# Altium footprint library FootprintLib.PcbLib: 194 footprints (part 7 of 13)
Each footprint in its own frame and in the unit in brackets; x right, y up, seen from the top. Pads: shape width x height; smd on the part's side, far side on the other; paste and mask are expansions set on the pad; w line width, h text height; cw(c..) or ccw(c..) is an arc to the next point about the centre after c.
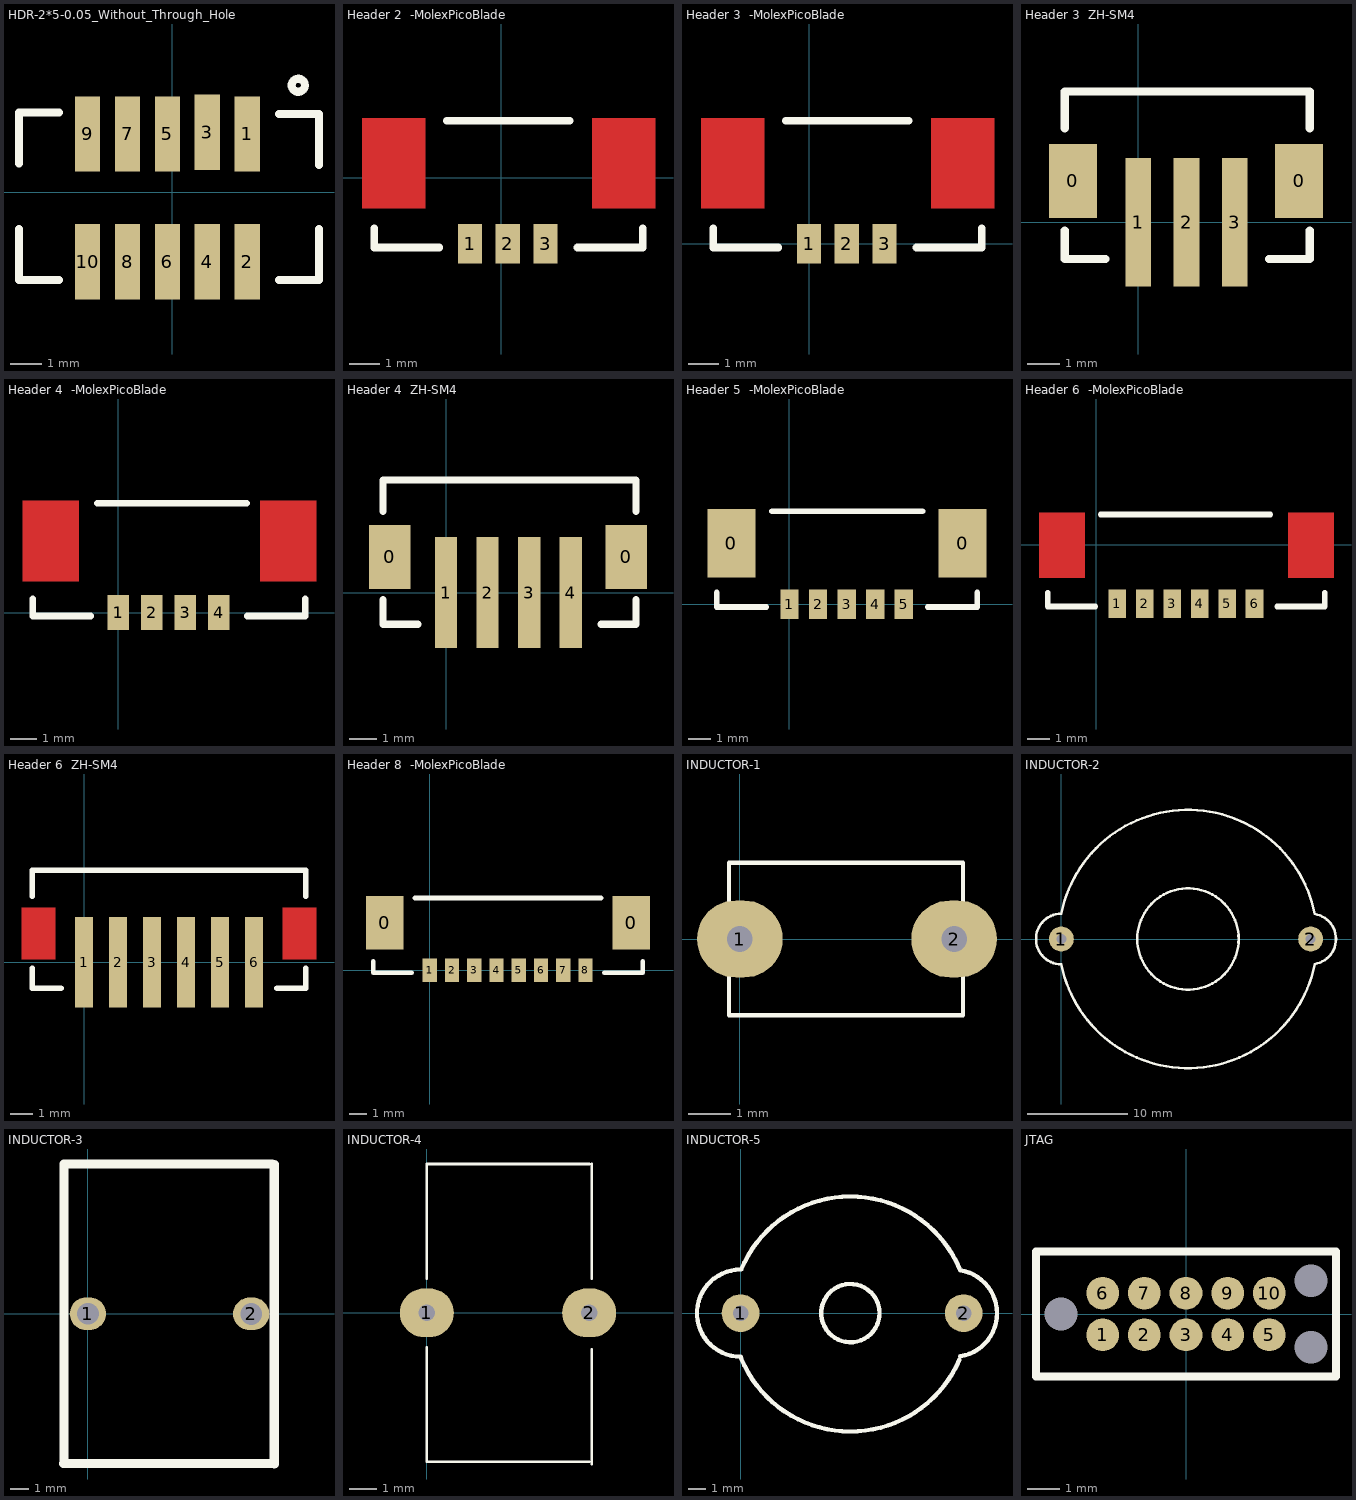
[diagram p6: the footprints below, top view; thin cyan lines are the x and y axes]

## HDR-2*5-0.05_Without_Through_Hole [mm]
pads (10):
  rect 0.8x2.4 smd: 1(2.388,1.854) 2(2.388,-2.21) 3(1.118,1.905) 4(1.118,-2.21) 5(-0.152,1.854) 6(-0.152,-2.21) 7(-1.422,1.854) 8(-1.422,-2.21) 9(-2.692,1.854) 10(-2.692,-2.21)
Top Overlay:
  circle w0.254: c4.013,3.404 r0.209
  lines w0.254: -4.877,-1.168 -4.877,-2.794 -3.607,-2.794 ; -4.877,0.914 -4.877,2.54 -3.607,2.54 ; 3.404,-2.794 4.674,-2.794 4.674,-1.168 ; 3.404,2.489 4.674,2.489 4.674,0.864

## Header 2  -MolexPicoBlade [mm]
pads (3):
  rect 0.8x1.3 smd: 1(-1.041,-2.184) 2(0.209,-2.184) 3(1.459,-2.184)
Top Layer:
  rectangle: -4.623,-1.019 -2.523,1.981
  rectangle: 2.997,-1.019 5.097,1.981
Top Overlay:
  lines w0.254: -4.216,-1.676 -4.216,-2.311 -2.057,-2.311 ; -1.803,1.88 2.261,1.88 ; 2.515,-2.311 4.674,-2.311 4.674,-1.676
Top Paste:
  rectangle: -4.623,-1.019 -2.523,1.981
  rectangle: 2.997,-1.019 5.097,1.981
Top Solder:
  rectangle: -4.75,-1.118 -2.438,2.083
  rectangle: 2.87,-1.118 5.182,2.083

## Header 3  -MolexPicoBlade [mm]
height 4.7
pads (3):
  rect 0.8x1.3 smd: 1(0,0) 2(1.25,0) 3(2.5,0)
Top Layer:
  rectangle: -3.581,1.166 -1.481,4.166
  rectangle: 4.039,1.166 6.139,4.166
Top Overlay:
  lines w0.254: -3.175,0.508 -3.175,-0.127 -1.016,-0.127 ; -0.762,4.064 3.302,4.064 ; 3.556,-0.127 5.715,-0.127 5.715,0.508
Top Paste:
  rectangle: -3.581,1.166 -1.481,4.166
  rectangle: 4.039,1.166 6.139,4.166
Top Solder:
  rectangle: -3.708,1.067 -1.397,4.267
  rectangle: 3.912,1.067 6.223,4.267

## Header 3  ZH-SM4 [mm]
height 5
pads (5):
  rect 1.5x2.3 smd: 0(-2.032,1.286) 0(5,1.286)
  rect 0.8x4 smd: 1(0,0) 2(1.5,0) 3(3,0)
Top Overlay:
  lines w0.254: -2.286,-0.254 -2.286,-1.143 -1.016,-1.143 ; -2.286,2.921 -2.286,4.064 5.334,4.064 5.334,2.921 ; 4.064,-1.143 5.298,-1.143 ; 5.334,-1.143 5.334,-0.254

## Header 4  -MolexPicoBlade [mm]
height 4.7
pads (4):
  rect 0.8x1.3 smd: 1(0,0) 2(1.25,0) 3(2.495,0) 4(3.745,0)
Top Layer:
  rectangle: -3.556,1.166 -1.456,4.166
  rectangle: 5.283,1.166 7.383,4.166
Top Overlay:
  lines w0.254: -3.175,0.508 -3.175,-0.127 -1.016,-0.127 ; -0.762,4.064 4.775,4.064 ; 4.801,-0.127 6.96,-0.127 6.96,0.508
Top Paste:
  rectangle: -3.556,1.166 -1.456,4.166
  rectangle: 5.283,1.166 7.383,4.166
Top Solder:
  rectangle: -3.683,1.067 -1.372,4.267
  rectangle: 5.156,1.067 7.468,4.267

## Header 4  ZH-SM4 [mm]
height 5
pads (6):
  rect 1.5x2.3 smd: 0(-2.032,1.286) 0(6.5,1.286)
  rect 0.8x4 smd: 1(0,0) 2(1.5,0) 3(3,0) 4(4.5,0)
Top Overlay:
  lines w0.254: -2.286,-0.254 -2.286,-1.143 -1.016,-1.143 ; -2.286,2.921 -2.286,4.064 6.858,4.064 6.858,2.921 ; 5.588,-1.143 6.822,-1.143 ; 6.858,-1.143 6.858,-0.254

## Header 5  -MolexPicoBlade [mm]
height 4.7
pads (7):
  rect 2.1x3 smd: 0(-2.54,2.667) 0(7.569,2.667)
  rect 0.8x1.3 smd: 1(0,0) 2(1.25,0) 3(2.5,0) 4(3.75,0) 5(5,0)
Top Overlay:
  lines w0.254: -3.175,0.508 -3.175,-0.127 -1.016,-0.127 ; -0.762,4.064 5.817,4.064 ; 6.045,-0.127 8.204,-0.127 8.204,0.508

## Header 6  -MolexPicoBlade [mm]
pads (6):
  rect 0.8x1.3 smd: 1(0.965,-2.692) 2(2.215,-2.692) 3(3.46,-2.692) 4(4.71,-2.692) 5(5.965,-2.692) 6(7.21,-2.692)
Top Layer:
  rectangle: 8.738,-1.527 10.838,1.473
  rectangle: -2.616,-1.527 -0.516,1.473
Top Overlay:
  lines w0.254: -2.21,-2.184 -2.21,-2.819 -0.051,-2.819 ; 0.203,1.372 7.925,1.372 ; 8.255,-2.819 10.414,-2.819 10.414,-2.184
Top Paste:
  rectangle: 8.738,-1.527 10.838,1.473
  rectangle: -2.616,-1.527 -0.516,1.473
Top Solder:
  rectangle: 8.611,-1.626 10.922,1.575
  rectangle: -2.743,-1.626 -0.432,1.575

## Header 6  ZH-SM4 [mm]
height 5
pads (6):
  rect 0.8x4 smd: 1(0,0) 2(1.5,0) 3(3,0) 4(4.5,0) 5(6,0) 6(7.5,0)
Top Layer:
  rectangle: 8.763,0.127 10.263,2.427
  rectangle: -2.769,0.127 -1.269,2.427
Top Overlay:
  lines w0.254: -2.286,-0.254 -2.286,-1.143 -1.016,-1.143 ; -2.286,2.921 -2.286,4.064 9.779,4.064 9.779,2.921 ; 8.509,-1.143 9.743,-1.143 ; 9.779,-1.143 9.779,-0.254
Top Paste:
  rectangle: 8.763,0.127 10.263,2.427
  rectangle: -2.769,0.127 -1.269,2.427
Top Solder:
  rectangle: 8.661,0.025 10.363,2.515
  rectangle: -2.87,0.025 -1.168,2.515

## Header 8  -MolexPicoBlade [mm]
height 4.7
pads (10):
  rect 2.1x3 smd: 0(-2.54,2.667) 0(11.328,2.667)
  rect 0.8x1.3 smd: 1(0,0) 2(1.25,0) 3(2.5,0) 4(3.75,0) 5(5,0) 7(7.5,0) 8(8.75,0)
  rect 0.8x1.3 smd paste+0: 6(6.25,0)
Top Overlay:
  lines w0.254: -3.175,0.508 -3.175,-0.127 -1.016,-0.127 ; -0.838,4.064 9.627,4.064 ; 9.804,-0.127 11.963,-0.127 11.963,0.508

## INDUCTOR-1 [mm]
pads (2):
  oval 2x1.8 hole 0.6: 1(0,0) 2(5,0)
Top Overlay:
  lines w0.005: 4.175,0 4.175,0.076
  lines w0.1: -0.254,-1.778 5.207,-1.778 5.207,1.778 -0.254,1.778 -0.254,-1.778

## INDUCTOR-2 [mm] "tiroyid inductor"
pads (2):
  round 2.5 hole 1: 1(0,0) 2(25,0)
Top Overlay:
  circle w0.254: c12.7,0 r5.08
  lines w0.254: 25.395,-2.509 ccw(c25,0) 25.395,2.509 ; 25.4,-2.54 cw(c12.7,0) 0,-2.54 cw(c0,0) 0,2.54 cw(c12.7,0) 25.406,2.511

## INDUCTOR-3 [mm]
pads (2):
  oval 2x1.8 hole 1.2: 1(0,0) 2(9,-0.01)
Top Overlay:
  lines w0.5: -1.35,-8.25 10.24,-8.25 10.29,-8.2 ; -1.32,-8.25 -1.32,8.25 10.16,8.25 ; 10.27,-8.28 10.27,8.22

## INDUCTOR-4 [mm]
pads (2):
  oval 2x1.8 hole 0.6: 1(0,0) 2(6,0)
Top Overlay:
  lines w0.1: 0,-1.27 0,-5.5 6,-5.5 ; 0,1.27 0,5.5 6,5.5 ; 6.096,-5.588 6.096,-1.358 ; 6.096,1.27 6.096,5.5

## INDUCTOR-5 [mm]
pads (2):
  round 2.2 hole 0.9: 1(0,0) 2(13,0)
Top Overlay:
  circle w0.254: c6.4,0 r1.7
  lines w0.254: 0,-2.54 cw(c0,0) 0,2.54 ; 0.032,-2.645 ccw(c6.405,0.001) 12.762,-2.684 ; 0.032,2.545 cw(c6.405,-0.101) 12.762,2.584 ; 12.8,-2.518 ccw(c12.405,-0.009) 12.8,2.5

## JTAG [mm]
pads (13):
  round 0 hole 1: 0(-3.81,0) 0(3.81,-1.016) 0(3.81,1.016)
  round 1 smd: 1(-2.54,-0.635) 2(-1.27,-0.635) 3(0,-0.635) 4(1.27,-0.635) 5(2.54,-0.635) 6(-2.54,0.635) 7(-1.27,0.635) 8(0,0.635) 9(1.27,0.635) 10(2.54,0.635)
Top Overlay:
  lines w0.254: -4.572,-1.905 -4.572,1.905 4.572,1.905 4.572,-1.905 -4.572,-1.905